# EAGLE library part ISOW1412DFMR (library WiFiPicoDMX_RevA_used)
TI reinforced isolated RS-485/RDM transceiver with integrated isolated DC/DC
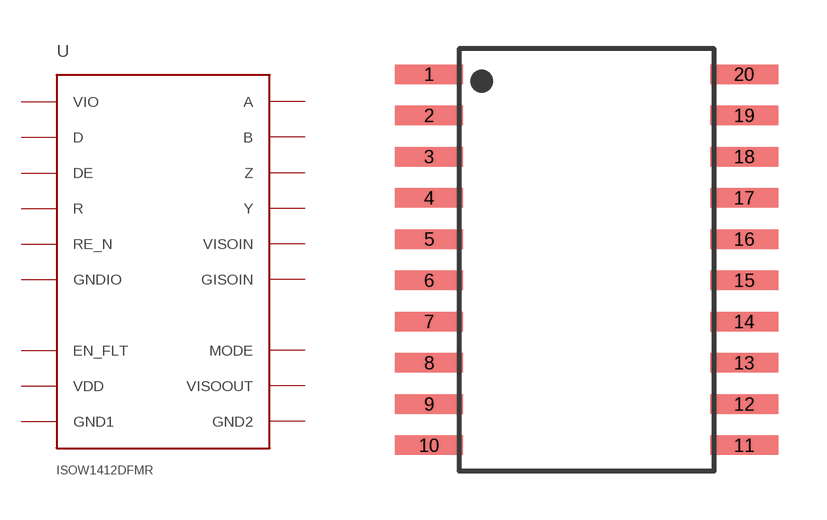
[diagram p3: symbol with the pads of DFM0020A_TI; footprint DFM0020A_TI]

Designator prefix U

## ISOW1412DFMR  [DFM0020A_TI]
1  VIO  pwr
2  D  in
3  DE  in
4  R  out
5  RE_N  in
6  GNDIO  pwr
8  EN_FLT
9  VDD  pwr
10  GND1  pwr
11  GND2  pwr
12  VISOOUT  pwr
13  MODE  in
15  GISOIN  pwr
16  VISOIN  pwr
17  Y  out
18  Z  out
19  B  in
20  A  in

## Footprint DFM0020A_TI (pad centres in mm)
Texas Instruments DFM0020A SOIC-20 land pattern: 1.27 mm pitch, 9.70 mm row-centre spacing, 2.10 X 0.60 mm pads.
smd 2.1 x 0.6: 1 -4.85,5.715; 2 -4.85,4.445; 3 -4.85,3.175; 4 -4.85,1.905; 5 -4.85,0.635; 6 -4.85,-0.635; 7 -4.85,-1.905; 8 -4.85,-3.175; 9 -4.85,-4.445; 10 -4.85,-5.715; 11 4.85,-5.715; 12 4.85,-4.445; 13 4.85,-3.175; 14 4.85,-1.905; 15 4.85,-0.635; 16 4.85,0.635; 17 4.85,1.905; 18 4.85,3.175; 19 4.85,4.445; 20 4.85,5.715